# Altium footprint library DC-012H.PcbLib: 1 footprints
Each footprint in its own frame and in the unit in brackets; x right, y up, seen from the top. Pads: shape width x height; smd on the part's side, far side on the other; paste and mask are expansions set on the pad; w line width, h text height; cw(c..) or ccw(c..) is an arc to the next point about the centre after c.
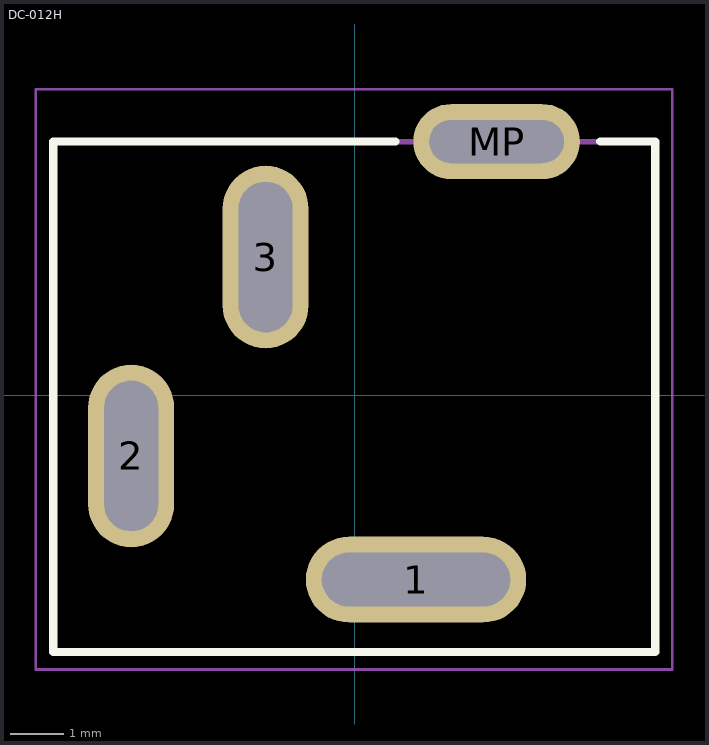
[diagram p0: the footprint, top view; thin cyan lines are the x and y axes]

## DC-012H [mm]
height 14.7
pads (4):
  oval 4.1x1.6 hole 1 slot 3.5 at 0 deg: 1(1.143,-3.429)
  oval 1.6x3.4 hole 1 slot 2.8 at 90 deg: 2(-4.157,-1.129) 3(-1.657,2.571)
  oval 3.1x1.4 hole 0.8 slot 2.5 at 0 deg: MP(2.643,4.721)
Top Overlay:
  lines w0.152: 0.762,4.721 -5.607,4.721 -5.607,-4.779 5.593,-4.779 5.593,4.721 4.572,4.721
Mechanical 13:
  lines w0.1: -5.607,-4.779 -5.607,4.721 5.593,4.721 5.593,-4.779 -5.607,-4.779
Mechanical 15:
  lines w0.05: -5.932,-5.104 5.909,-5.104 5.909,5.696 -5.932,5.696 -5.932,-5.104
3D body: height 12, standoff -4.7, extent -5.6,-4.75 5.6,4.76